# Altium footprint library ss.PcbLib: 5 footprints
Each footprint in its own frame and in the unit in brackets; x right, y up, seen from the top. Pads: shape width x height; smd on the part's side, far side on the other; paste and mask are expansions set on the pad; w line width, h text height; cw(c..) or ccw(c..) is an arc to the next point about the centre after c.
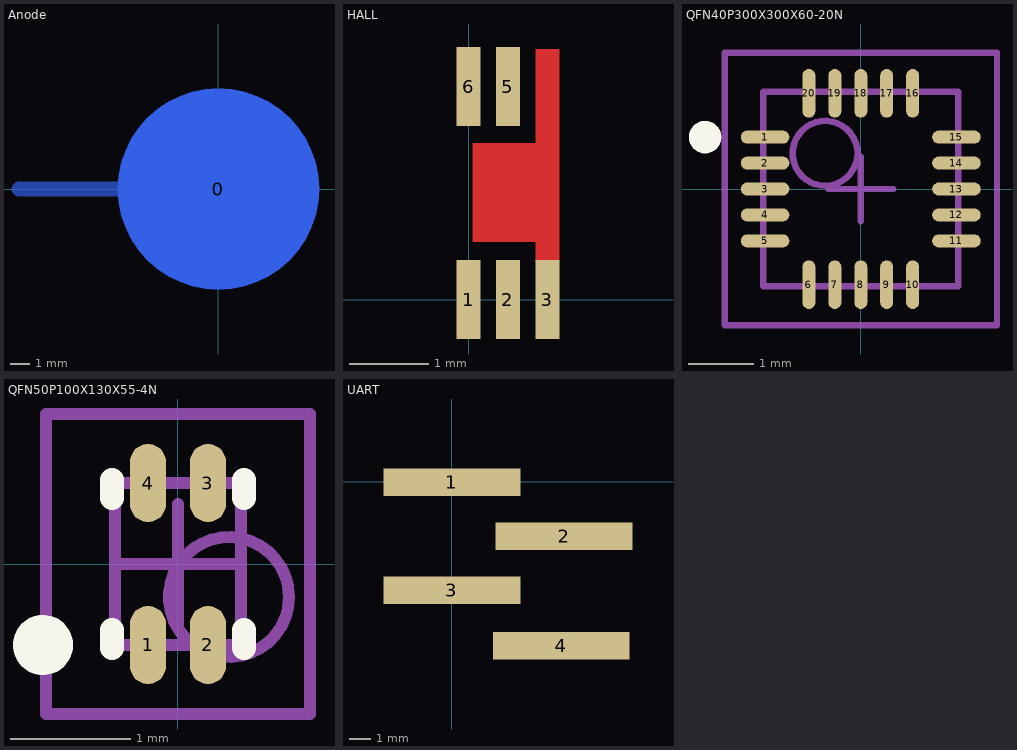
[diagram p0: the footprints below, top view; thin cyan lines are the x and y axes]

## Anode [mm]
pads (1):
  round 10.16 smd far side: 0(0,0)
Bottom Layer:
  lines w0.762: -10.08,0 0,0

## HALL [mm] "Hall Effect sensor"
pads (5):
  rect 0.3x1 smd: 1(0,0) 2(0.5,0) 3(1,0) 5(0.5,2.7) 6(0,2.7)
Top Layer:
  rectangle: 0.05,0.731 1,1.981
  rectangle: 0.85,0.483 1.15,3.175
Top Solder:
  rectangle: 0.813,0.533 1.245,0.762
  rectangle: 0.737,1.93 1.245,3.302
  rectangle: -0.025,0.686 1.245,2.032

## QFN40P300X300X60-20N [mm] "QFN, 20-Leads, Body 3.0x3.0mm (max), Pitch 0.40mm, IPC Medium Density"
height 0.6
pads (20):
  oval 0.75x0.2 smd: 1(-1.475,0.8) 2(-1.475,0.4) 3(-1.475,0) 4(-1.475,-0.4) 5(-1.475,-0.8) 11(1.475,-0.8) 12(1.475,-0.4) 13(1.475,0) 14(1.475,0.4) 15(1.475,0.8)
  oval 0.2x0.75 smd: 6(-0.8,-1.475) 7(-0.4,-1.475) 8(0,-1.475) 9(0.4,-1.475) 10(0.8,-1.475) 16(0.8,1.475) 17(0.4,1.475) 18(0,1.475) 19(-0.4,1.475) 20(-0.8,1.475)
Top Overlay:
  circle w0.25: c-2.4,0.8 r0.125
Mechanical 13:
  circle w0.1: c-0.55,0.55 r0.5
  lines w0.1: -1.5,-1.5 -1.5,1.5 1.5,1.5 1.5,-1.5 -1.5,-1.5
Mechanical 15:
  lines w0.1: -0.5,0 0.5,0 ; 0,-0.5 0,0.5 ; -2.1,-2.1 -2.1,2.1 2.1,2.1 2.1,-2.1 -2.1,-2.1
3D body: height 0.6, standoff 0.05, extent -1.5,-1.5 1.5,1.5

## QFN50P100X130X55-4N [mm] "QFN, 4-Leads, Body 1.4x1.0mm (max), Pitch 0.50mm, IPC Medium Density"
height 0.55
pads (4):
  oval 0.3x0.65 smd: 1(-0.25,-0.675) 2(0.25,-0.675) 3(0.25,0.675) 4(-0.25,0.675)
Top Overlay:
  circle w0.25: c-1.125,-0.675 r0.125
  lines w0.2: -0.55,-0.7 -0.55,-0.55 ; -0.55,0.55 -0.55,0.7 ; 0.55,-0.7 0.55,-0.55 ; 0.55,0.55 0.55,0.7
Mechanical 13:
  circle w0.1: c0.425,-0.275 r0.5
  lines w0.1: -0.525,-0.675 -0.525,0.675 0.525,0.675 0.525,-0.675 -0.525,-0.675
Mechanical 15:
  lines w0.1: -0.5,0 0.5,0 ; 0,-0.5 0,0.5 ; -1.1,-1.25 -1.1,1.25 1.1,1.25 1.1,-1.25 -1.1,-1.25
3D body: height 0.55, standoff 0, extent -0.525,-0.675 0.525,0.675

## UART [mm] "S1013E-36-ND"
pads (4):
  rect 6.35x1.27 smd: 1(0,-0.032) 2(5.207,-2.54) 3(0,-5.04) 4(5.08,-7.62)